# Altium schematic symbol library ACPL-W346.SchLib: 1 symbol
Pins are listed as number, name and electrical type; pins without a type are passive.

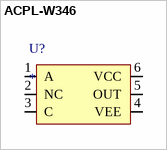
[diagram p0: symbol ACPL-W346]

## ACPL-W346
designator U?
mfrpartno: *
pins: 1 A, 2 NC, 3 C, 4 VEE, 5 OUT (out), 6 VCC